# EAGLE library part 691234510006 (library Wurth_Connectors_WR-TBL Rising Cage Clamp)
WR-TBL Series 2345 - 5.08 mm Horizontal Entry w. Rising Cage Clamp KIND PROPERTIES Pitch 5.08 mm MATERIAL PROPERTIES Insulator Material PA6/66 Insulator Flammability Rating UL94 V-0 Insulator Color Green Contact Material Copper Alloy Contact Plating Nickel Terminal Screw Material Steel Terminal Screw Plating Zinc Wire Guard Material Copper Alloy with Tin over Nickel GENERAL INFORMATION Operating Temperature -30 up to +120 °C Compliance Lead free / RoHS ELECTRICAL PROPERTIES IR UL 20 A IR VDE 20 A Working Voltage [UL] 300 V (AC) Working Voltage [VDE] 450 V (AC) Withstanding Voltage [UL] 1600 V (AC) Withstanding Voltage [VDE] 2500 V (AC) Contact Resistance 20 mΩ MECHANICAL PROPERTIES Wire Strip Length 6 (mm) Screw M3 CERTIFICATION UL Approval E150931 Cat No. MRT18 (5) VDE Approval 40022114 Type MRT18 PACKAGING PROPERTIES Packaging Box <https://www.we-online.com/catalog/media/o84231v209%20Family_WR-TBL2_6912345100xx.jpg> Details see: https://www.we-online.com/catalog/en/TBL_5_08_2345_HORIZONTAL_ENTRY_W_RISING_CAGE_CLAMP_6912345100xx/ Updated by Ella Wu 2019-11-26 2019(C) Wurth Elektronik
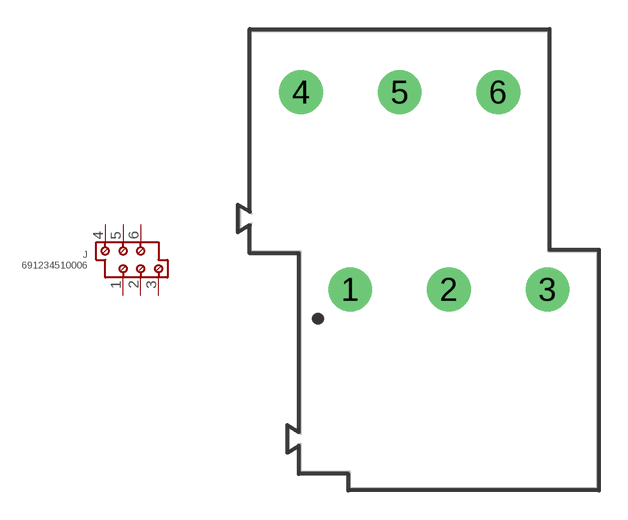
[diagram p70: symbol with the pads of 691234510006; footprint 691234510006]

Designator prefix J

## 691234510006 (IR-UL: 20A; IR-VDE: 20A; PART-NUMBER: 691234510006; PINS: 6; PITCH: 5.08mm; TYPE: Double Level Horizontal; WIRE: 12 to 30 (AWG) 3.31 to 0.05 (mm²); WORKING-VOLTAGE-UL: 300V (AC); WORKING-VOLTAGE-VDE: 450V (AC))  [691234510006]
1  1  pas
2  2  pas
3  3  pas
4  4  pas
5  5  pas
6  6  pas

## Footprint 691234510006 (pad centres in mm)
WR-TBL Series 2345 - 5.08 mm Horizontal Entry w. Rising Cage Clamp Max Height =45mm , Pitch 5.08mm , 6 Pins
drill 1.5: 1 -5.08,0; 2 0,0; 3 5.08,0; 4 -7.62,10.16; 5 -2.54,10.16; 6 2.54,10.16